# EAGLE library part BTS555 (library ownParts)
PROFET® Data Sheet BTS555 Source: http://www.infineon.com/upload/Document/cmc_upload/documents/011/8726/Datasheet_BTS555.pdf
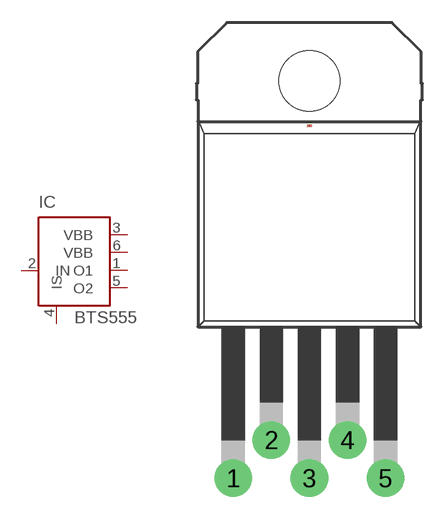
[diagram p2: symbol with the pads of TO220-52; footprint TO220-52]

Designator prefix IC

## BTS555E3146 (OC_FARNELL: unknown; OC_NEWARK: unknown)  [TO220-52]
1  O1  pas
2  IN  in
3  VBB  pas
4  IS  pas
5  O2  pas
6  VBB  pas

## Footprint TO220-52 (pad centres in mm)
TO-218AB/5 Option E3146 Source: http://www.infineon.com/upload/Document/cmc_upload/documents/011/8726/Datasheet_BTS555.pdf
drill 1.6 pad 2.5: 1 -5.08,-30.48; 2 -2.54,-27.94; 3 0,-30.48; 4 2.54,-27.94; 5 5.08,-30.48
smd 0.305 x 0.152: 6 0,-6.985
hole 4.05 at 0,-4